# Altium schematic symbol library kmilo17pet-NSC_Switcher.SchLib: 2226 symbols (part 6 of 59)
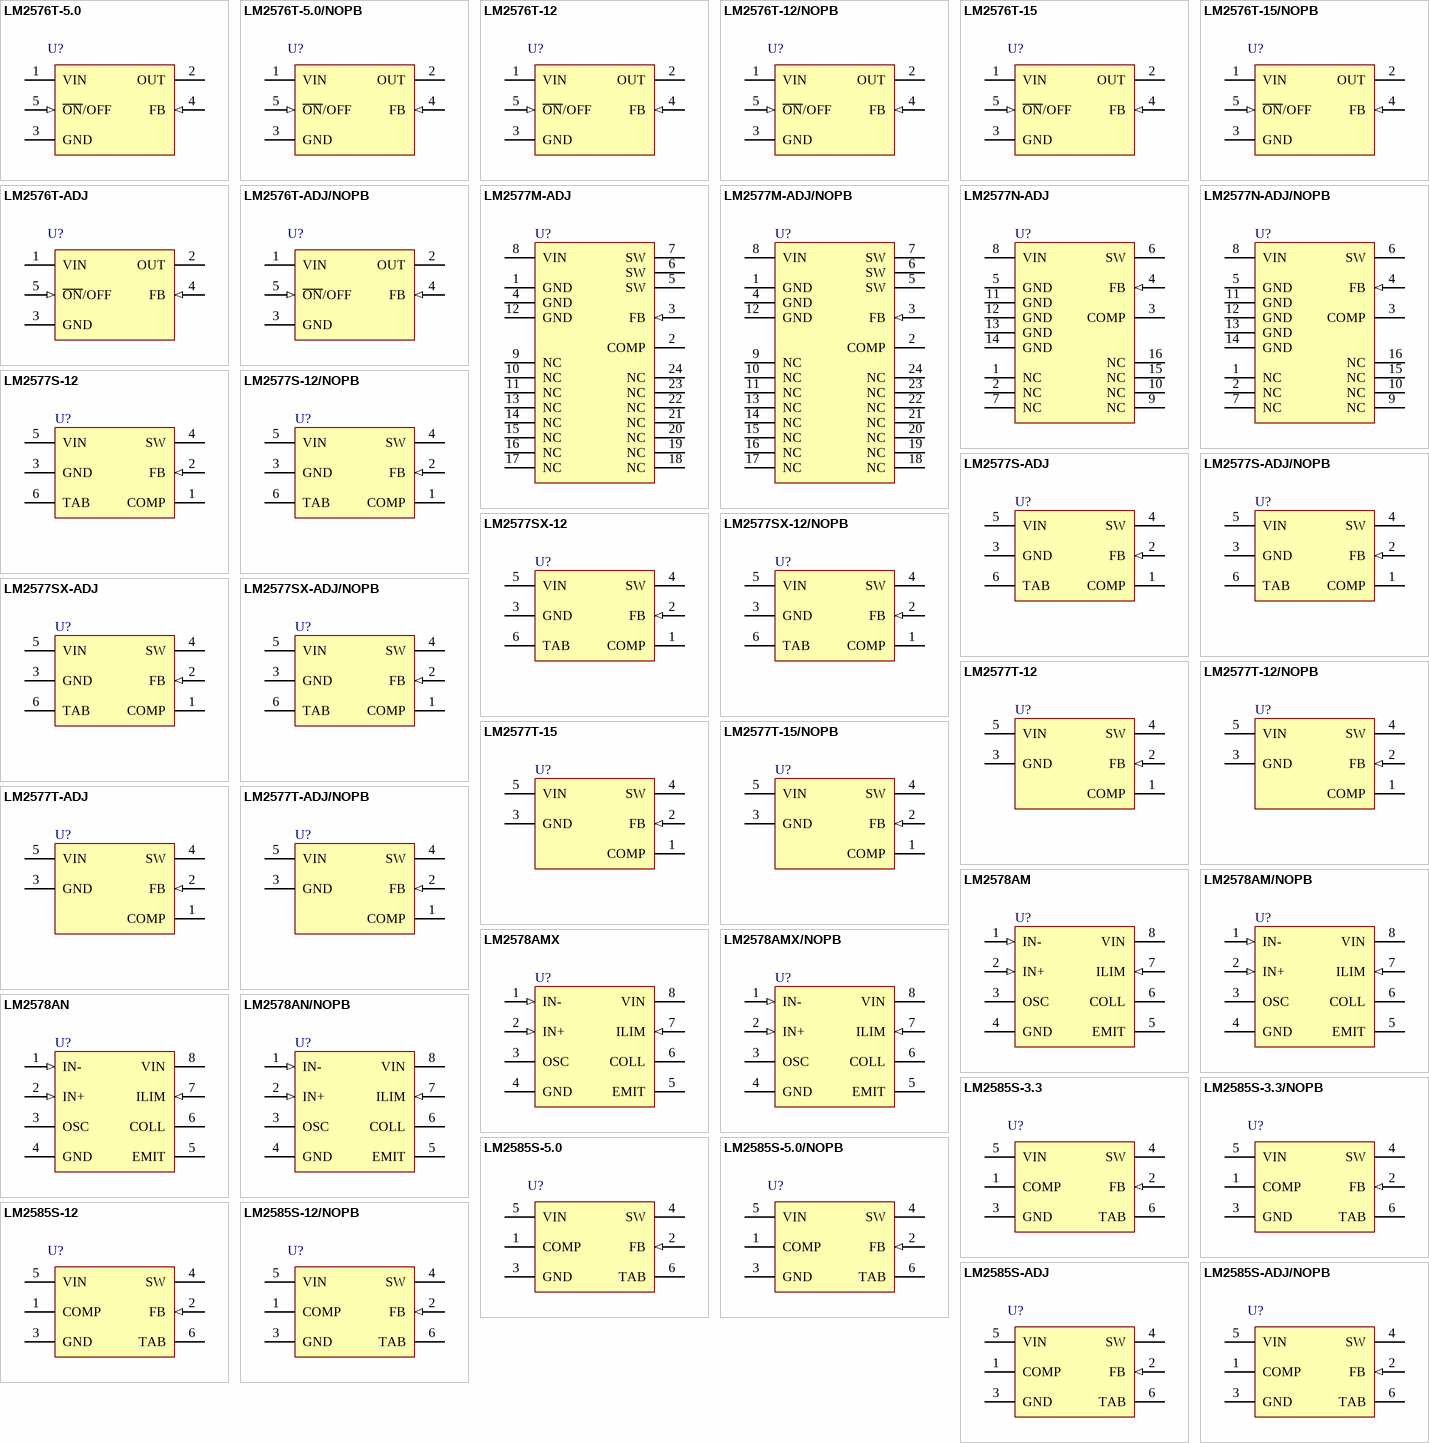
[diagram p74: symbols LM2576T-5.0 to LM2585S-ADJ/NOPB]

## LM2576T-12/NOPB
designator U?
SIMPLE SWITCHER® 3A Step-Down Voltage Regulator, 5-pin TO-220, Pb-Free; PartNumber: LM2576T-12/NOPB; Manufacturer: National Semiconductor; PackageTopMarking: NSUZXYTTE#*LM2576T*-12 P+; PowerWise: N; High-Reliability: Y; DatasheetVersion: Aug-2004; PackageVersion: revJ, Jan-1992; PackageReference: T05A; PackageDescription: TO-220, Molded, 5 Lead, Straight; RoHS: Y; PinCount: 5; CompType: Switcher; Code_JEDEC: TO-220-AB; ComponentLink1Description: Manufacturer URL; ComponentLink1URL: http://www.national.com/; ComponentLink2Description: LM2576 Datasheet; ComponentLink2URL: http://www.national.com/ds/LM/LM2576.pdf; ComponentLink3Description: LM2576 Web Page; ComponentLink3URL: http://www.national.com/pf/LM/LM2576.html; ComponentLink4Description: T05A Package Page; ComponentLink4URL: http://www.national.com/packaging/folders/t05a.html
footprint T05A (TO, Thru-Hole, Vertical, Heatsink Mounted; 5 In-Line Leads; Pitch 1.70 mm)
pins: 1 VIN (power), 2 OUT (power), 3 GND (power), 4 FB (in), 5 ~{ON}/OFF (in)

## LM2576T-15
designator U?
SIMPLE SWITCHER® 3A Step-Down Voltage Regulator, 5-pin TO-220; PartNumber: LM2576T-15; Manufacturer: National Semiconductor; PackageTopMarking: NSUZXYTTE#*LM2576T*-15 P+; PowerWise: N; High-Reliability: Y; DatasheetVersion: Aug-2004; PackageVersion: revJ, Jan-1992; PackageReference: T05A; PackageDescription: TO-220, Molded, 5 Lead, Straight; RoHS: N; PinCount: 5; CompType: Switcher; Code_JEDEC: TO-220-AB; ComponentLink1Description: Manufacturer URL; ComponentLink1URL: http://www.national.com/; ComponentLink2Description: LM2576 Datasheet; ComponentLink2URL: http://www.national.com/ds/LM/LM2576.pdf; ComponentLink3Description: LM2576 Web Page; ComponentLink3URL: http://www.national.com/pf/LM/LM2576.html; ComponentLink4Description: T05A Package Page; ComponentLink4URL: http://www.national.com/packaging/folders/t05a.html
footprint T05A (TO, Thru-Hole, Vertical, Heatsink Mounted; 5 In-Line Leads; Pitch 1.70 mm)
pins: 1 VIN (power), 2 OUT (power), 3 GND (power), 4 FB (in), 5 ~{ON}/OFF (in)

## LM2576T-15/NOPB
designator U?
SIMPLE SWITCHER® 3A Step-Down Voltage Regulator, 5-pin TO-220, Pb-Free; PartNumber: LM2576T-15/NOPB; Manufacturer: National Semiconductor; PackageTopMarking: NSUZXYTTE#*LM2576T*-15 P+; PowerWise: N; High-Reliability: Y; DatasheetVersion: Aug-2004; PackageVersion: revJ, Jan-1992; PackageReference: T05A; PackageDescription: TO-220, Molded, 5 Lead, Straight; RoHS: Y; PinCount: 5; CompType: Switcher; Code_JEDEC: TO-220-AB; ComponentLink1Description: Manufacturer URL; ComponentLink1URL: http://www.national.com/; ComponentLink2Description: LM2576 Datasheet; ComponentLink2URL: http://www.national.com/ds/LM/LM2576.pdf; ComponentLink3Description: LM2576 Web Page; ComponentLink3URL: http://www.national.com/pf/LM/LM2576.html; ComponentLink4Description: T05A Package Page; ComponentLink4URL: http://www.national.com/packaging/folders/t05a.html
footprint T05A (TO, Thru-Hole, Vertical, Heatsink Mounted; 5 In-Line Leads; Pitch 1.70 mm)
pins: 1 VIN (power), 2 OUT (power), 3 GND (power), 4 FB (in), 5 ~{ON}/OFF (in)

## LM2576T-ADJ
designator U?
SIMPLE SWITCHER® 3A Step-Down Voltage Regulator, 5-pin TO-220; PartNumber: LM2576T-ADJ; Manufacturer: National Semiconductor; PackageTopMarking: NSUZXYTTE#*LM2576T*-ADJ P+; PowerWise: N; High-Reliability: Y; DatasheetVersion: Aug-2004; PackageVersion: revJ, Jan-1992; PackageReference: T05A; PackageDescription: TO-220, Molded, 5 Lead, Straight; RoHS: N; PinCount: 5; CompType: Switcher; Code_JEDEC: TO-220-AB; ComponentLink1Description: Manufacturer URL; ComponentLink1URL: http://www.national.com/; ComponentLink2Description: LM2576 Datasheet; ComponentLink2URL: http://www.national.com/ds/LM/LM2576.pdf; ComponentLink3Description: LM2576 Web Page; ComponentLink3URL: http://www.national.com/pf/LM/LM2576.html; ComponentLink4Description: T05A Package Page; ComponentLink4URL: http://www.national.com/packaging/folders/t05a.html
footprint T05A (TO, Thru-Hole, Vertical, Heatsink Mounted; 5 In-Line Leads; Pitch 1.70 mm)
pins: 1 VIN (power), 2 OUT (power), 3 GND (power), 4 FB (in), 5 ~{ON}/OFF (in)

## LM2576T-ADJ/NOPB
designator U?
SIMPLE SWITCHER® 3A Step-Down Voltage Regulator, 5-pin TO-220, Pb-Free; PartNumber: LM2576T-ADJ/NOPB; Manufacturer: National Semiconductor; PackageTopMarking: NSUZXYTTE#*LM2576T*-ADJ P+; PowerWise: N; High-Reliability: Y; DatasheetVersion: Aug-2004; PackageVersion: revJ, Jan-1992; PackageReference: T05A; PackageDescription: TO-220, Molded, 5 Lead, Straight; RoHS: Y; PinCount: 5; CompType: Switcher; Code_JEDEC: TO-220-AB; ComponentLink1Description: Manufacturer URL; ComponentLink1URL: http://www.national.com/; ComponentLink2Description: LM2576 Datasheet; ComponentLink2URL: http://www.national.com/ds/LM/LM2576.pdf; ComponentLink3Description: LM2576 Web Page; ComponentLink3URL: http://www.national.com/pf/LM/LM2576.html; ComponentLink4Description: T05A Package Page; ComponentLink4URL: http://www.national.com/packaging/folders/t05a.html
footprint T05A (TO, Thru-Hole, Vertical, Heatsink Mounted; 5 In-Line Leads; Pitch 1.70 mm)
pins: 1 VIN (power), 2 OUT (power), 3 GND (power), 4 FB (in), 5 ~{ON}/OFF (in)

## LM2577M-ADJ
designator U?
SIMPLE SWITCHER® Step-Up Voltage Regulator, 24-pin Wide SOIC; PartNumber: LM2577M-ADJ; Manufacturer: National Semiconductor; PackageTopMarking: NSUZXYTTE#*LM2577M*-ADJ P+; PowerWise: N; High-Reliability: Y; DatasheetVersion: Apr-2005; PackageVersion: revF, Apr-1990; PackageReference: M24B; PackageDescription: Molded Package, S.O., .300in Wide, 24 Lead; RoHS: N; PinCount: 24; CompType: Switcher; ComponentLink1Description: Manufacturer URL; ComponentLink1URL: http://www.national.com/; ComponentLink2Description: LM2577 Datasheet; ComponentLink2URL: http://www.national.com/ds/LM/LM2577.pdf; ComponentLink3Description: LM2577 Web Page; ComponentLink3URL: http://www.national.com/pf/LM/LM2577.html; ComponentLink4Description: M24B Package Page; ComponentLink4URL: http://www.national.com/packaging/folders/m24b.html
footprint M24B_N (SOIC, 24-Leads, Body 15.4x7.5mm, Pitch 1.27mm, IPC Medium Density)
footprint M24B_L (SOIC, 24-Leads, Body 15.4x7.5mm, Pitch 1.27mm, IPC High Density)
footprint M24B_M (SOIC, 24-Leads, Body 15.4x7.5mm, Pitch 1.27mm, IPC Low Density)
pins: 1 GND (power), 2 COMP, 3 FB (in), 4 GND (power), 5 SW (power), 6 SW (power), 7 SW (power), 8 VIN (power), 9 NC, 10 NC, 11 NC, 12 GND (power), 13 NC, 14 NC, 15 NC, 16 NC, 17 NC, 18 NC, 19 NC, 20 NC, 21 NC, 22 NC, 23 NC, 24 NC

## LM2577M-ADJ/NOPB
designator U?
SIMPLE SWITCHER® Step-Up Voltage Regulator, 24-pin Wide SOIC, Pb-Free; PartNumber: LM2577M-ADJ/NOPB; Manufacturer: National Semiconductor; PackageTopMarking: NSUZXYTTE#*LM2577M*-ADJ P+; PowerWise: N; High-Reliability: Y; DatasheetVersion: Apr-2005; PackageVersion: revF, Apr-1990; PackageReference: M24B; PackageDescription: Molded Package, S.O., .300in Wide, 24 Lead; RoHS: Y; PinCount: 24; CompType: Switcher; ComponentLink1Description: Manufacturer URL; ComponentLink1URL: http://www.national.com/; ComponentLink2Description: LM2577 Datasheet; ComponentLink2URL: http://www.national.com/ds/LM/LM2577.pdf; ComponentLink3Description: LM2577 Web Page; ComponentLink3URL: http://www.national.com/pf/LM/LM2577.html; ComponentLink4Description: M24B Package Page; ComponentLink4URL: http://www.national.com/packaging/folders/m24b.html
footprint M24B_N (SOIC, 24-Leads, Body 15.4x7.5mm, Pitch 1.27mm, IPC Medium Density)
footprint M24B_L (SOIC, 24-Leads, Body 15.4x7.5mm, Pitch 1.27mm, IPC High Density)
footprint M24B_M (SOIC, 24-Leads, Body 15.4x7.5mm, Pitch 1.27mm, IPC Low Density)
pins: 1 GND (power), 2 COMP, 3 FB (in), 4 GND (power), 5 SW (power), 6 SW (power), 7 SW (power), 8 VIN (power), 9 NC, 10 NC, 11 NC, 12 GND (power), 13 NC, 14 NC, 15 NC, 16 NC, 17 NC, 18 NC, 19 NC, 20 NC, 21 NC, 22 NC, 23 NC, 24 NC

## LM2577N-ADJ
designator U?
SIMPLE SWITCHER® Step-Up Voltage Regulator, 16-pin MDIP; PartNumber: LM2577N-ADJ; Manufacturer: National Semiconductor; PackageTopMarking: NSUZXYYTTE#*LM2577N-ADJ*P+; PowerWise: N; High-Reliability: Y; DatasheetVersion: Apr-2005; PackageVersion: revB, Feb-1989; PackageReference: N16G; PackageDescription: Molded Dip (N), 16 Lead, 15 Mil Power Package; RoHS: N; PinCount: 16; CompType: Switcher; ComponentLink1Description: Manufacturer URL; ComponentLink1URL: http://www.national.com/; ComponentLink2Description: LM2577 Datasheet; ComponentLink2URL: http://www.national.com/ds/LM/LM2577.pdf; ComponentLink3Description: LM2577 Web Page; ComponentLink3URL: http://www.national.com/pf/LM/LM2577.html; ComponentLink4Description: N16G Package Page; ComponentLink4URL: http://www.national.com/packaging/folders/n16g.html
footprint N16G (DIP, 16-Leads, Row Spacing 7.62mm, Pitch 2.54mm, Body 21.76x6.35mm)
pins: 1 NC, 2 NC, 3 COMP, 4 FB (in), 5 GND (power), 6 SW (power), 7 NC, 8 VIN (power), 9 NC, 10 NC, 11 GND (power), 12 GND (power), 13 GND (power), 14 GND (power), 15 NC, 16 NC

## LM2577N-ADJ/NOPB
designator U?
SIMPLE SWITCHER® Step-Up Voltage Regulator, 16-pin MDIP, Pb-Free; PartNumber: LM2577N-ADJ/NOPB; Manufacturer: National Semiconductor; PackageTopMarking: NSUZXYYTTE#*LM2577N-ADJ*P+; PowerWise: N; High-Reliability: Y; DatasheetVersion: Apr-2005; PackageVersion: revB, Feb-1989; PackageReference: N16G; PackageDescription: Molded Dip (N), 16 Lead, 15 Mil Power Package; RoHS: Y; PinCount: 16; CompType: Switcher; ComponentLink1Description: Manufacturer URL; ComponentLink1URL: http://www.national.com/; ComponentLink2Description: LM2577 Datasheet; ComponentLink2URL: http://www.national.com/ds/LM/LM2577.pdf; ComponentLink3Description: LM2577 Web Page; ComponentLink3URL: http://www.national.com/pf/LM/LM2577.html; ComponentLink4Description: N16G Package Page; ComponentLink4URL: http://www.national.com/packaging/folders/n16g.html
footprint N16G (DIP, 16-Leads, Row Spacing 7.62mm, Pitch 2.54mm, Body 21.76x6.35mm)
pins: 1 NC, 2 NC, 3 COMP, 4 FB (in), 5 GND (power), 6 SW (power), 7 NC, 8 VIN (power), 9 NC, 10 NC, 11 GND (power), 12 GND (power), 13 GND (power), 14 GND (power), 15 NC, 16 NC

## LM2577S-12
designator U?
SIMPLE SWITCHER® Step-Up Voltage Regulator, 5-pin TO-263; PartNumber: LM2577S-12; Manufacturer: National Semiconductor; PackageTopMarking: NSUZXYTTE#*LM2577S*-12 P+; PowerWise: N; High-Reliability: Y; DatasheetVersion: Apr-2005; PackageVersion: revD, Apr-2005; PackageReference: TS5B; PackageDescription: TO-263, Molded, .400 x .390 x .180in, 5 Lead, .067in Pitch, Surface Mount; RoHS: N; PinCount: 5; CompType: Switcher; Code_JEDEC: MO-169-AB; ComponentLink1Description: Manufacturer URL; ComponentLink1URL: http://www.national.com/; ComponentLink2Description: LM2577 Datasheet; ComponentLink2URL: http://www.national.com/ds/LM/LM2577.pdf; ComponentLink3Description: LM2577 Web Page; ComponentLink3URL: http://www.national.com/pf/LM/LM2577.html; ComponentLink4Description: TS5B Package Page; ComponentLink4URL: http://www.national.com/packaging/folders/ts5b.html
footprint TS5B_N (D2-PAK, 6-Leads, Body 8.6x10.2mm, Pitch 1.7mm, Lead Span 14.1mm, IPC Medium Density)
footprint TS5B_L (D2-PAK, 6-Leads, Body 8.6x10.2mm, Pitch 1.7mm, Lead Span 14.1mm, IPC High Density)
footprint TS5B_M (D2-PAK, 6-Leads, Body 8.6x10.2mm, Pitch 1.7mm, Lead Span 14.1mm, IPC Low Density)
pins: 1 COMP, 2 FB (in), 3 GND (power), 4 SW (power), 5 VIN (power), 6 TAB (power)

## LM2577S-12/NOPB
designator U?
SIMPLE SWITCHER® Step-Up Voltage Regulator, 5-pin TO-263, Pb-Free; PartNumber: LM2577S-12/NOPB; Manufacturer: National Semiconductor; PackageTopMarking: NSUZXYTTE#*LM2577S*-12 P+; PowerWise: N; High-Reliability: Y; DatasheetVersion: Apr-2005; PackageVersion: revD, Apr-2005; PackageReference: TS5B; PackageDescription: TO-263, Molded, .400 x .390 x .180in, 5 Lead, .067in Pitch, Surface Mount; RoHS: Y; PinCount: 5; CompType: Switcher; Code_JEDEC: MO-169-AB; ComponentLink1Description: Manufacturer URL; ComponentLink1URL: http://www.national.com/; ComponentLink2Description: LM2577 Datasheet; ComponentLink2URL: http://www.national.com/ds/LM/LM2577.pdf; ComponentLink3Description: LM2577 Web Page; ComponentLink3URL: http://www.national.com/pf/LM/LM2577.html; ComponentLink4Description: TS5B Package Page; ComponentLink4URL: http://www.national.com/packaging/folders/ts5b.html
footprint TS5B_N (D2-PAK, 6-Leads, Body 8.6x10.2mm, Pitch 1.7mm, Lead Span 14.1mm, IPC Medium Density)
footprint TS5B_L (D2-PAK, 6-Leads, Body 8.6x10.2mm, Pitch 1.7mm, Lead Span 14.1mm, IPC High Density)
footprint TS5B_M (D2-PAK, 6-Leads, Body 8.6x10.2mm, Pitch 1.7mm, Lead Span 14.1mm, IPC Low Density)
pins: 1 COMP, 2 FB (in), 3 GND (power), 4 SW (power), 5 VIN (power), 6 TAB (power)

## LM2577S-ADJ
designator U?
SIMPLE SWITCHER® Step-Up Voltage Regulator, 5-pin TO-263; PartNumber: LM2577S-ADJ; Manufacturer: National Semiconductor; PackageTopMarking: NSUZXYTTE#*LM2577S*-ADJ P+; PowerWise: N; High-Reliability: Y; DatasheetVersion: Apr-2005; PackageVersion: revD, Apr-2005; PackageReference: TS5B; PackageDescription: TO-263, Molded, .400 x .390 x .180in, 5 Lead, .067in Pitch, Surface Mount; RoHS: N; PinCount: 5; CompType: Switcher; Code_JEDEC: MO-169-AB; ComponentLink1Description: Manufacturer URL; ComponentLink1URL: http://www.national.com/; ComponentLink2Description: LM2577 Datasheet; ComponentLink2URL: http://www.national.com/ds/LM/LM2577.pdf; ComponentLink3Description: LM2577 Web Page; ComponentLink3URL: http://www.national.com/pf/LM/LM2577.html; ComponentLink4Description: TS5B Package Page; ComponentLink4URL: http://www.national.com/packaging/folders/ts5b.html
footprint TS5B_N (D2-PAK, 6-Leads, Body 8.6x10.2mm, Pitch 1.7mm, Lead Span 14.1mm, IPC Medium Density)
footprint TS5B_L (D2-PAK, 6-Leads, Body 8.6x10.2mm, Pitch 1.7mm, Lead Span 14.1mm, IPC High Density)
footprint TS5B_M (D2-PAK, 6-Leads, Body 8.6x10.2mm, Pitch 1.7mm, Lead Span 14.1mm, IPC Low Density)
pins: 1 COMP, 2 FB (in), 3 GND (power), 4 SW (power), 5 VIN (power), 6 TAB (power)

## LM2577S-ADJ/NOPB
designator U?
SIMPLE SWITCHER® Step-Up Voltage Regulator, 5-pin TO-263, Pb-Free; PartNumber: LM2577S-ADJ/NOPB; Manufacturer: National Semiconductor; PackageTopMarking: NSUZXYTTE#*LM2577S*-ADJ P+; PowerWise: N; High-Reliability: Y; DatasheetVersion: Apr-2005; PackageVersion: revD, Apr-2005; PackageReference: TS5B; PackageDescription: TO-263, Molded, .400 x .390 x .180in, 5 Lead, .067in Pitch, Surface Mount; RoHS: Y; PinCount: 5; CompType: Switcher; Code_JEDEC: MO-169-AB; ComponentLink1Description: Manufacturer URL; ComponentLink1URL: http://www.national.com/; ComponentLink2Description: LM2577 Datasheet; ComponentLink2URL: http://www.national.com/ds/LM/LM2577.pdf; ComponentLink3Description: LM2577 Web Page; ComponentLink3URL: http://www.national.com/pf/LM/LM2577.html; ComponentLink4Description: TS5B Package Page; ComponentLink4URL: http://www.national.com/packaging/folders/ts5b.html
footprint TS5B_N (D2-PAK, 6-Leads, Body 8.6x10.2mm, Pitch 1.7mm, Lead Span 14.1mm, IPC Medium Density)
footprint TS5B_L (D2-PAK, 6-Leads, Body 8.6x10.2mm, Pitch 1.7mm, Lead Span 14.1mm, IPC High Density)
footprint TS5B_M (D2-PAK, 6-Leads, Body 8.6x10.2mm, Pitch 1.7mm, Lead Span 14.1mm, IPC Low Density)
pins: 1 COMP, 2 FB (in), 3 GND (power), 4 SW (power), 5 VIN (power), 6 TAB (power)

## LM2577SX-12
designator U?
SIMPLE SWITCHER® Step-Up Voltage Regulator, 5-pin TO-263; PartNumber: LM2577SX-12; Manufacturer: National Semiconductor; PackageTopMarking: NSUZXYTTE#*LM2577S*-12 P+; PowerWise: N; High-Reliability: Y; DatasheetVersion: Apr-2005; PackageVersion: revD, Apr-2005; PackageReference: TS5B; PackageDescription: TO-263, Molded, .400 x .390 x .180in, 5 Lead, .067in Pitch, Surface Mount; RoHS: N; PinCount: 5; CompType: Switcher; Code_JEDEC: MO-169-AB; ComponentLink1Description: Manufacturer URL; ComponentLink1URL: http://www.national.com/; ComponentLink2Description: LM2577 Datasheet; ComponentLink2URL: http://www.national.com/ds/LM/LM2577.pdf; ComponentLink3Description: LM2577 Web Page; ComponentLink3URL: http://www.national.com/pf/LM/LM2577.html; ComponentLink4Description: TS5B Package Page; ComponentLink4URL: http://www.national.com/packaging/folders/ts5b.html
footprint TS5B_N (D2-PAK, 6-Leads, Body 8.6x10.2mm, Pitch 1.7mm, Lead Span 14.1mm, IPC Medium Density)
footprint TS5B_L (D2-PAK, 6-Leads, Body 8.6x10.2mm, Pitch 1.7mm, Lead Span 14.1mm, IPC High Density)
footprint TS5B_M (D2-PAK, 6-Leads, Body 8.6x10.2mm, Pitch 1.7mm, Lead Span 14.1mm, IPC Low Density)
pins: 1 COMP, 2 FB (in), 3 GND (power), 4 SW (power), 5 VIN (power), 6 TAB (power)

## LM2577SX-12/NOPB
designator U?
SIMPLE SWITCHER® Step-Up Voltage Regulator, 5-pin TO-263, Pb-Free; PartNumber: LM2577SX-12/NOPB; Manufacturer: National Semiconductor; PackageTopMarking: NSUZXYTTE#*LM2577S*-12 P+; PowerWise: N; High-Reliability: Y; DatasheetVersion: Apr-2005; PackageVersion: revD, Apr-2005; PackageReference: TS5B; PackageDescription: TO-263, Molded, .400 x .390 x .180in, 5 Lead, .067in Pitch, Surface Mount; RoHS: Y; PinCount: 5; CompType: Switcher; Code_JEDEC: MO-169-AB; ComponentLink1Description: Manufacturer URL; ComponentLink1URL: http://www.national.com/; ComponentLink2Description: LM2577 Datasheet; ComponentLink2URL: http://www.national.com/ds/LM/LM2577.pdf; ComponentLink3Description: LM2577 Web Page; ComponentLink3URL: http://www.national.com/pf/LM/LM2577.html; ComponentLink4Description: TS5B Package Page; ComponentLink4URL: http://www.national.com/packaging/folders/ts5b.html
footprint TS5B_N (D2-PAK, 6-Leads, Body 8.6x10.2mm, Pitch 1.7mm, Lead Span 14.1mm, IPC Medium Density)
footprint TS5B_L (D2-PAK, 6-Leads, Body 8.6x10.2mm, Pitch 1.7mm, Lead Span 14.1mm, IPC High Density)
footprint TS5B_M (D2-PAK, 6-Leads, Body 8.6x10.2mm, Pitch 1.7mm, Lead Span 14.1mm, IPC Low Density)
pins: 1 COMP, 2 FB (in), 3 GND (power), 4 SW (power), 5 VIN (power), 6 TAB (power)

## LM2577SX-ADJ
designator U?
SIMPLE SWITCHER® Step-Up Voltage Regulator, 5-pin TO-263; PartNumber: LM2577SX-ADJ; Manufacturer: National Semiconductor; PackageTopMarking: NSUZXYTTE#*LM2577S*-ADJ P+; PowerWise: N; High-Reliability: Y; DatasheetVersion: Apr-2005; PackageVersion: revD, Apr-2005; PackageReference: TS5B; PackageDescription: TO-263, Molded, .400 x .390 x .180in, 5 Lead, .067in Pitch, Surface Mount; RoHS: N; PinCount: 5; CompType: Switcher; Code_JEDEC: MO-169-AB; ComponentLink1Description: Manufacturer URL; ComponentLink1URL: http://www.national.com/; ComponentLink2Description: LM2577 Datasheet; ComponentLink2URL: http://www.national.com/ds/LM/LM2577.pdf; ComponentLink3Description: LM2577 Web Page; ComponentLink3URL: http://www.national.com/pf/LM/LM2577.html; ComponentLink4Description: TS5B Package Page; ComponentLink4URL: http://www.national.com/packaging/folders/ts5b.html
footprint TS5B_N (D2-PAK, 6-Leads, Body 8.6x10.2mm, Pitch 1.7mm, Lead Span 14.1mm, IPC Medium Density)
footprint TS5B_L (D2-PAK, 6-Leads, Body 8.6x10.2mm, Pitch 1.7mm, Lead Span 14.1mm, IPC High Density)
footprint TS5B_M (D2-PAK, 6-Leads, Body 8.6x10.2mm, Pitch 1.7mm, Lead Span 14.1mm, IPC Low Density)
pins: 1 COMP, 2 FB (in), 3 GND (power), 4 SW (power), 5 VIN (power), 6 TAB (power)

## LM2577SX-ADJ/NOPB
designator U?
SIMPLE SWITCHER® Step-Up Voltage Regulator, 5-pin TO-263, Pb-Free; PartNumber: LM2577SX-ADJ/NOPB; Manufacturer: National Semiconductor; PackageTopMarking: NSUZXYTTE#*LM2577S*-ADJ P+; PowerWise: N; High-Reliability: Y; DatasheetVersion: Apr-2005; PackageVersion: revD, Apr-2005; PackageReference: TS5B; PackageDescription: TO-263, Molded, .400 x .390 x .180in, 5 Lead, .067in Pitch, Surface Mount; RoHS: Y; PinCount: 5; CompType: Switcher; Code_JEDEC: MO-169-AB; ComponentLink1Description: Manufacturer URL; ComponentLink1URL: http://www.national.com/; ComponentLink2Description: LM2577 Datasheet; ComponentLink2URL: http://www.national.com/ds/LM/LM2577.pdf; ComponentLink3Description: LM2577 Web Page; ComponentLink3URL: http://www.national.com/pf/LM/LM2577.html; ComponentLink4Description: TS5B Package Page; ComponentLink4URL: http://www.national.com/packaging/folders/ts5b.html
footprint TS5B_N (D2-PAK, 6-Leads, Body 8.6x10.2mm, Pitch 1.7mm, Lead Span 14.1mm, IPC Medium Density)
footprint TS5B_L (D2-PAK, 6-Leads, Body 8.6x10.2mm, Pitch 1.7mm, Lead Span 14.1mm, IPC High Density)
footprint TS5B_M (D2-PAK, 6-Leads, Body 8.6x10.2mm, Pitch 1.7mm, Lead Span 14.1mm, IPC Low Density)
pins: 1 COMP, 2 FB (in), 3 GND (power), 4 SW (power), 5 VIN (power), 6 TAB (power)

## LM2577T-12
designator U?
SIMPLE SWITCHER® Step-Up Voltage Regulator, 5-pin TO-220; PartNumber: LM2577T-12; Manufacturer: National Semiconductor; PackageTopMarking: NSUZXYTTE#*LM2577T-12*P+; PowerWise: N; High-Reliability: Y; DatasheetVersion: Apr-2005; PackageVersion: revJ, Jan-1992; PackageReference: T05A; PackageDescription: TO-220, Molded, 5 Lead, Straight; RoHS: N; PinCount: 5; CompType: Switcher; Code_JEDEC: TO-220-AB; ComponentLink1Description: Manufacturer URL; ComponentLink1URL: http://www.national.com/; ComponentLink2Description: LM2577 Datasheet; ComponentLink2URL: http://www.national.com/ds/LM/LM2577.pdf; ComponentLink3Description: LM2577 Web Page; ComponentLink3URL: http://www.national.com/pf/LM/LM2577.html; ComponentLink4Description: T05A Package Page; ComponentLink4URL: http://www.national.com/packaging/folders/t05a.html
footprint T05A (TO, Thru-Hole, Vertical, Heatsink Mounted; 5 In-Line Leads; Pitch 1.70 mm)
pins: 1 COMP, 2 FB (in), 3 GND (power), 4 SW (power), 5 VIN (power)

## LM2577T-12/NOPB
designator U?
SIMPLE SWITCHER® Step-Up Voltage Regulator, 5-pin TO-220, Pb-Free; PartNumber: LM2577T-12/NOPB; Manufacturer: National Semiconductor; PackageTopMarking: NSUZXYTTE#*LM2577T-12*P+; PowerWise: N; High-Reliability: Y; DatasheetVersion: Apr-2005; PackageVersion: revJ, Jan-1992; PackageReference: T05A; PackageDescription: TO-220, Molded, 5 Lead, Straight; RoHS: Y; PinCount: 5; CompType: Switcher; Code_JEDEC: TO-220-AB; ComponentLink1Description: Manufacturer URL; ComponentLink1URL: http://www.national.com/; ComponentLink2Description: LM2577 Datasheet; ComponentLink2URL: http://www.national.com/ds/LM/LM2577.pdf; ComponentLink3Description: LM2577 Web Page; ComponentLink3URL: http://www.national.com/pf/LM/LM2577.html; ComponentLink4Description: T05A Package Page; ComponentLink4URL: http://www.national.com/packaging/folders/t05a.html
footprint T05A (TO, Thru-Hole, Vertical, Heatsink Mounted; 5 In-Line Leads; Pitch 1.70 mm)
pins: 1 COMP, 2 FB (in), 3 GND (power), 4 SW (power), 5 VIN (power)

## LM2577T-15
designator U?
SIMPLE SWITCHER® Step-Up Voltage Regulator, 5-pin TO-220; PartNumber: LM2577T-15; Manufacturer: National Semiconductor; PackageTopMarking: NSUZXYTTE#*LM2577T-15*P+; PowerWise: N; High-Reliability: Y; DatasheetVersion: Apr-2005; PackageVersion: revJ, Jan-1992; PackageReference: T05A; PackageDescription: TO-220, Molded, 5 Lead, Straight; RoHS: N; PinCount: 5; CompType: Switcher; Code_JEDEC: TO-220-AB; ComponentLink1Description: Manufacturer URL; ComponentLink1URL: http://www.national.com/; ComponentLink2Description: LM2577 Datasheet; ComponentLink2URL: http://www.national.com/ds/LM/LM2577.pdf; ComponentLink3Description: LM2577 Web Page; ComponentLink3URL: http://www.national.com/pf/LM/LM2577.html; ComponentLink4Description: T05A Package Page; ComponentLink4URL: http://www.national.com/packaging/folders/t05a.html
footprint T05A (TO, Thru-Hole, Vertical, Heatsink Mounted; 5 In-Line Leads; Pitch 1.70 mm)
pins: 1 COMP, 2 FB (in), 3 GND (power), 4 SW (power), 5 VIN (power)

## LM2577T-15/NOPB
designator U?
SIMPLE SWITCHER® Step-Up Voltage Regulator, 5-pin TO-220, Pb-Free; PartNumber: LM2577T-15/NOPB; Manufacturer: National Semiconductor; PackageTopMarking: NSUZXYTTE#*LM2577T-15*P+; PowerWise: N; High-Reliability: Y; DatasheetVersion: Apr-2005; PackageVersion: revJ, Jan-1992; PackageReference: T05A; PackageDescription: TO-220, Molded, 5 Lead, Straight; RoHS: Y; PinCount: 5; CompType: Switcher; Code_JEDEC: TO-220-AB; ComponentLink1Description: Manufacturer URL; ComponentLink1URL: http://www.national.com/; ComponentLink2Description: LM2577 Datasheet; ComponentLink2URL: http://www.national.com/ds/LM/LM2577.pdf; ComponentLink3Description: LM2577 Web Page; ComponentLink3URL: http://www.national.com/pf/LM/LM2577.html; ComponentLink4Description: T05A Package Page; ComponentLink4URL: http://www.national.com/packaging/folders/t05a.html
footprint T05A (TO, Thru-Hole, Vertical, Heatsink Mounted; 5 In-Line Leads; Pitch 1.70 mm)
pins: 1 COMP, 2 FB (in), 3 GND (power), 4 SW (power), 5 VIN (power)

## LM2577T-ADJ
designator U?
SIMPLE SWITCHER® Step-Up Voltage Regulator, 5-pin TO-220; PartNumber: LM2577T-ADJ; Manufacturer: National Semiconductor; PackageTopMarking: NSUZXYTTE#*LM2577T*-ADJ*P+; PowerWise: N; High-Reliability: Y; DatasheetVersion: Apr-2005; PackageVersion: revJ, Jan-1992; PackageReference: T05A; PackageDescription: TO-220, Molded, 5 Lead, Straight; RoHS: N; PinCount: 5; CompType: Switcher; Code_JEDEC: TO-220-AB; ComponentLink1Description: Manufacturer URL; ComponentLink1URL: http://www.national.com/; ComponentLink2Description: LM2577 Datasheet; ComponentLink2URL: http://www.national.com/ds/LM/LM2577.pdf; ComponentLink3Description: LM2577 Web Page; ComponentLink3URL: http://www.national.com/pf/LM/LM2577.html; ComponentLink4Description: T05A Package Page; ComponentLink4URL: http://www.national.com/packaging/folders/t05a.html
footprint T05A (TO, Thru-Hole, Vertical, Heatsink Mounted; 5 In-Line Leads; Pitch 1.70 mm)
pins: 1 COMP, 2 FB (in), 3 GND (power), 4 SW (power), 5 VIN (power)

## LM2577T-ADJ/NOPB
designator U?
SIMPLE SWITCHER® Step-Up Voltage Regulator, 5-pin TO-220, Pb-Free; PartNumber: LM2577T-ADJ/NOPB; Manufacturer: National Semiconductor; PackageTopMarking: NSUZXYTTE#*LM2577T*-ADJ*P+; PowerWise: N; High-Reliability: Y; DatasheetVersion: Apr-2005; PackageVersion: revJ, Jan-1992; PackageReference: T05A; PackageDescription: TO-220, Molded, 5 Lead, Straight; RoHS: Y; PinCount: 5; CompType: Switcher; Code_JEDEC: TO-220-AB; ComponentLink1Description: Manufacturer URL; ComponentLink1URL: http://www.national.com/; ComponentLink2Description: LM2577 Datasheet; ComponentLink2URL: http://www.national.com/ds/LM/LM2577.pdf; ComponentLink3Description: LM2577 Web Page; ComponentLink3URL: http://www.national.com/pf/LM/LM2577.html; ComponentLink4Description: T05A Package Page; ComponentLink4URL: http://www.national.com/packaging/folders/t05a.html
footprint T05A (TO, Thru-Hole, Vertical, Heatsink Mounted; 5 In-Line Leads; Pitch 1.70 mm)
pins: 1 COMP, 2 FB (in), 3 GND (power), 4 SW (power), 5 VIN (power)

## LM2578AM
designator U?
Switching Regulator, 8-pin Narrow SOIC; PartNumber: LM2578AM; Manufacturer: National Semiconductor; PackageTopMarking: NSZXTT*2578*AM; PowerWise: N; CompType: Switcher; High-Reliability: Y; DatasheetVersion: Feb-2005; PackageVersion: revM, May-2009; PackageReference: M08A; PackageDescription: SOIC Narrow, 4.9 x 3.9 x 1.45mm, 8 Lead, 1.27mm Pitch; RoHS: N; PinCount: 8; Code_JEDEC: MS-012-AA; Code_IPC: SOIC127P600-8; ComponentLink1Description: Manufacturer URL; ComponentLink1URL: http://www.national.com/; ComponentLink2Description: LM2578A Datasheet; ComponentLink2URL: http://www.national.com/ds/LM/LM2578A.pdf; ComponentLink3Description: LM2578A Web Page; ComponentLink3URL: http://www.national.com/pf/LM/LM2578A.html; ComponentLink4Description: M08A Package Page; ComponentLink4URL: http://www.national.com/packaging/folders/m08a.html
footprint M08A_N (SOIC, 8-Leads, Body 4.9x3.9mm, Pitch 1.27mm, IPC Medium Density)
footprint M08A_L (SOIC, 8-Leads, Body 4.9x3.9mm, Pitch 1.27mm, IPC High Density)
footprint M08A_M (SOIC, 8-Leads, Body 4.9x3.9mm, Pitch 1.27mm, IPC Low Density)
pins: 1 IN- (in), 2 IN+ (in), 3 OSC, 4 GND (power), 5 EMIT (oe), 6 COLL (oc), 7 ILIM (in), 8 VIN (power)

## LM2578AM/NOPB
designator U?
Switching Regulator, 8-pin Narrow SOIC, Pb-Free; PartNumber: LM2578AM/NOPB; Manufacturer: National Semiconductor; PackageTopMarking: NSZXTT*2578*AM; PowerWise: N; CompType: Switcher; High-Reliability: Y; DatasheetVersion: Feb-2005; PackageVersion: revM, May-2009; PackageReference: M08A; PackageDescription: SOIC Narrow, 4.9 x 3.9 x 1.45mm, 8 Lead, 1.27mm Pitch; RoHS: Y; PinCount: 8; Code_JEDEC: MS-012-AA; Code_IPC: SOIC127P600-8; ComponentLink1Description: Manufacturer URL; ComponentLink1URL: http://www.national.com/; ComponentLink2Description: LM2578A Datasheet; ComponentLink2URL: http://www.national.com/ds/LM/LM2578A.pdf; ComponentLink3Description: LM2578A Web Page; ComponentLink3URL: http://www.national.com/pf/LM/LM2578A.html; ComponentLink4Description: M08A Package Page; ComponentLink4URL: http://www.national.com/packaging/folders/m08a.html
footprint M08A_N (SOIC, 8-Leads, Body 4.9x3.9mm, Pitch 1.27mm, IPC Medium Density)
footprint M08A_L (SOIC, 8-Leads, Body 4.9x3.9mm, Pitch 1.27mm, IPC High Density)
footprint M08A_M (SOIC, 8-Leads, Body 4.9x3.9mm, Pitch 1.27mm, IPC Low Density)
pins: 1 IN- (in), 2 IN+ (in), 3 OSC, 4 GND (power), 5 EMIT (oe), 6 COLL (oc), 7 ILIM (in), 8 VIN (power)

## LM2578AMX
designator U?
Switching Regulator, 8-pin Narrow SOIC; PartNumber: LM2578AMX; Manufacturer: National Semiconductor; PackageTopMarking: NSZXTT*2578*AM; PowerWise: N; CompType: Switcher; High-Reliability: Y; DatasheetVersion: Feb-2005; PackageVersion: revM, May-2009; PackageReference: M08A; PackageDescription: SOIC Narrow, 4.9 x 3.9 x 1.45mm, 8 Lead, 1.27mm Pitch; RoHS: N; PinCount: 8; Code_JEDEC: MS-012-AA; Code_IPC: SOIC127P600-8; ComponentLink1Description: Manufacturer URL; ComponentLink1URL: http://www.national.com/; ComponentLink2Description: LM2578A Datasheet; ComponentLink2URL: http://www.national.com/ds/LM/LM2578A.pdf; ComponentLink3Description: LM2578A Web Page; ComponentLink3URL: http://www.national.com/pf/LM/LM2578A.html; ComponentLink4Description: M08A Package Page; ComponentLink4URL: http://www.national.com/packaging/folders/m08a.html
footprint M08A_N (SOIC, 8-Leads, Body 4.9x3.9mm, Pitch 1.27mm, IPC Medium Density)
footprint M08A_L (SOIC, 8-Leads, Body 4.9x3.9mm, Pitch 1.27mm, IPC High Density)
footprint M08A_M (SOIC, 8-Leads, Body 4.9x3.9mm, Pitch 1.27mm, IPC Low Density)
pins: 1 IN- (in), 2 IN+ (in), 3 OSC, 4 GND (power), 5 EMIT (oe), 6 COLL (oc), 7 ILIM (in), 8 VIN (power)

## LM2578AMX/NOPB
designator U?
Switching Regulator, 8-pin Narrow SOIC, Pb-Free; PartNumber: LM2578AMX/NOPB; Manufacturer: National Semiconductor; PackageTopMarking: NSZXTT*2578*AM; PowerWise: N; CompType: Switcher; High-Reliability: Y; DatasheetVersion: Feb-2005; PackageVersion: revM, May-2009; PackageReference: M08A; PackageDescription: SOIC Narrow, 4.9 x 3.9 x 1.45mm, 8 Lead, 1.27mm Pitch; RoHS: Y; PinCount: 8; Code_JEDEC: MS-012-AA; Code_IPC: SOIC127P600-8; ComponentLink1Description: Manufacturer URL; ComponentLink1URL: http://www.national.com/; ComponentLink2Description: LM2578A Datasheet; ComponentLink2URL: http://www.national.com/ds/LM/LM2578A.pdf; ComponentLink3Description: LM2578A Web Page; ComponentLink3URL: http://www.national.com/pf/LM/LM2578A.html; ComponentLink4Description: M08A Package Page; ComponentLink4URL: http://www.national.com/packaging/folders/m08a.html
footprint M08A_N (SOIC, 8-Leads, Body 4.9x3.9mm, Pitch 1.27mm, IPC Medium Density)
footprint M08A_L (SOIC, 8-Leads, Body 4.9x3.9mm, Pitch 1.27mm, IPC High Density)
footprint M08A_M (SOIC, 8-Leads, Body 4.9x3.9mm, Pitch 1.27mm, IPC Low Density)
pins: 1 IN- (in), 2 IN+ (in), 3 OSC, 4 GND (power), 5 EMIT (oe), 6 COLL (oc), 7 ILIM (in), 8 VIN (power)

## LM2578AN
designator U?
Switching Regulator, 8-pin MDIP; PartNumber: LM2578AN; Manufacturer: National Semiconductor; PackageTopMarking: NSUZXYTTE#*LM2578AN; PowerWise: N; CompType: Switcher; High-Reliability: Y; DatasheetVersion: Feb-2005; PackageVersion: revG, May-2006; PackageReference: N08E; PackageDescription: MDIP, .365 x .250 x .130in, 8 Lead, .100in Pitch; RoHS: N; PinCount: 8; Code_JEDEC: MS-001-BA; ComponentLink1Description: Manufacturer URL; ComponentLink1URL: http://www.national.com/; ComponentLink2Description: LM2578A Datasheet; ComponentLink2URL: http://www.national.com/ds/LM/LM2578A.pdf; ComponentLink3Description: LM2578A Web Page; ComponentLink3URL: http://www.national.com/pf/LM/LM2578A.html; ComponentLink4Description: N08E Package Page; ComponentLink4URL: http://www.national.com/packaging/folders/n08e.html
footprint N08E (DIP, 8-Leads, Row Spacing 7.62mm, Pitch 2.54mm, Body 9.91x6.35mm)
pins: 1 IN- (in), 2 IN+ (in), 3 OSC, 4 GND (power), 5 EMIT (oe), 6 COLL (oc), 7 ILIM (in), 8 VIN (power)

## LM2578AN/NOPB
designator U?
Switching Regulator, 8-pin MDIP, Pb-Free; PartNumber: LM2578AN/NOPB; Manufacturer: National Semiconductor; PackageTopMarking: NSUZXYTTE#*LM2578AN; PowerWise: N; CompType: Switcher; High-Reliability: Y; DatasheetVersion: Feb-2005; PackageVersion: revG, May-2006; PackageReference: N08E; PackageDescription: MDIP, .365 x .250 x .130in, 8 Lead, .100in Pitch; RoHS: Y; PinCount: 8; Code_JEDEC: MS-001-BA; ComponentLink1Description: Manufacturer URL; ComponentLink1URL: http://www.national.com/; ComponentLink2Description: LM2578A Datasheet; ComponentLink2URL: http://www.national.com/ds/LM/LM2578A.pdf; ComponentLink3Description: LM2578A Web Page; ComponentLink3URL: http://www.national.com/pf/LM/LM2578A.html; ComponentLink4Description: N08E Package Page; ComponentLink4URL: http://www.national.com/packaging/folders/n08e.html
footprint N08E (DIP, 8-Leads, Row Spacing 7.62mm, Pitch 2.54mm, Body 9.91x6.35mm)
pins: 1 IN- (in), 2 IN+ (in), 3 OSC, 4 GND (power), 5 EMIT (oe), 6 COLL (oc), 7 ILIM (in), 8 VIN (power)

## LM2585S-3.3
designator U?
SIMPLE SWITCHER® 3-Amp Flyback Regulator, 5-pin TO-263; PartNumber: LM2585S-3.3; Manufacturer: National Semiconductor; PackageTopMarking: NSUZXYTTE#*LM2585S*-3.3 P+; PowerWise: N; High-Reliability: Y; DatasheetVersion: Feb-2010; PackageVersion: revD, Apr-2005; PackageReference: TS5B; PackageDescription: TO-263, Molded, .400 x .390 x .180in, 5 Lead, .067in Pitch, Surface Mount; RoHS: N; PinCount: 5; CompType: Switcher; Code_JEDEC: MO-169-AB; ComponentLink1Description: Manufacturer URL; ComponentLink1URL: http://www.national.com/; ComponentLink2Description: LM2585 Datasheet; ComponentLink2URL: http://www.national.com/ds/LM/LM2585.pdf; ComponentLink3Description: LM2585 Web Page; ComponentLink3URL: http://www.national.com/pf/LM/LM2585.html; ComponentLink4Description: TS5B Package Page; ComponentLink4URL: http://www.national.com/packaging/folders/ts5b.html
footprint TS5B_N (D2-PAK, 6-Leads, Body 8.6x10.2mm, Pitch 1.7mm, Lead Span 14.1mm, IPC Medium Density)
footprint TS5B_L (D2-PAK, 6-Leads, Body 8.6x10.2mm, Pitch 1.7mm, Lead Span 14.1mm, IPC High Density)
footprint TS5B_M (D2-PAK, 6-Leads, Body 8.6x10.2mm, Pitch 1.7mm, Lead Span 14.1mm, IPC Low Density)
pins: 1 COMP, 2 FB (in), 3 GND (power), 4 SW (power), 5 VIN (power), 6 TAB

## LM2585S-3.3/NOPB
designator U?
SIMPLE SWITCHER® 3-Amp Flyback Regulator, 5-pin TO-263, Pb-Free; PartNumber: LM2585S-3.3/NOPB; Manufacturer: National Semiconductor; PackageTopMarking: NSUZXYTTE#*LM2585S*-3.3 P+; PowerWise: N; High-Reliability: Y; DatasheetVersion: Feb-2010; PackageVersion: revD, Apr-2005; PackageReference: TS5B; PackageDescription: TO-263, Molded, .400 x .390 x .180in, 5 Lead, .067in Pitch, Surface Mount; RoHS: Y; PinCount: 5; CompType: Switcher; Code_JEDEC: MO-169-AB; ComponentLink1Description: Manufacturer URL; ComponentLink1URL: http://www.national.com/; ComponentLink2Description: LM2585 Datasheet; ComponentLink2URL: http://www.national.com/ds/LM/LM2585.pdf; ComponentLink3Description: LM2585 Web Page; ComponentLink3URL: http://www.national.com/pf/LM/LM2585.html; ComponentLink4Description: TS5B Package Page; ComponentLink4URL: http://www.national.com/packaging/folders/ts5b.html
footprint TS5B_N (D2-PAK, 6-Leads, Body 8.6x10.2mm, Pitch 1.7mm, Lead Span 14.1mm, IPC Medium Density)
footprint TS5B_L (D2-PAK, 6-Leads, Body 8.6x10.2mm, Pitch 1.7mm, Lead Span 14.1mm, IPC High Density)
footprint TS5B_M (D2-PAK, 6-Leads, Body 8.6x10.2mm, Pitch 1.7mm, Lead Span 14.1mm, IPC Low Density)
pins: 1 COMP, 2 FB (in), 3 GND (power), 4 SW (power), 5 VIN (power), 6 TAB

## LM2585S-5.0
designator U?
SIMPLE SWITCHER® 3-Amp Flyback Regulator, 5-pin TO-263; PartNumber: LM2585S-5.0; Manufacturer: National Semiconductor; PackageTopMarking: NSUZXYTTE#*LM2585S*-5.0 P+; PowerWise: N; High-Reliability: Y; DatasheetVersion: Feb-2010; PackageVersion: revD, Apr-2005; PackageReference: TS5B; PackageDescription: TO-263, Molded, .400 x .390 x .180in, 5 Lead, .067in Pitch, Surface Mount; RoHS: N; PinCount: 5; CompType: Switcher; Code_JEDEC: MO-169-AB; ComponentLink1Description: Manufacturer URL; ComponentLink1URL: http://www.national.com/; ComponentLink2Description: LM2585 Datasheet; ComponentLink2URL: http://www.national.com/ds/LM/LM2585.pdf; ComponentLink3Description: LM2585 Web Page; ComponentLink3URL: http://www.national.com/pf/LM/LM2585.html; ComponentLink4Description: TS5B Package Page; ComponentLink4URL: http://www.national.com/packaging/folders/ts5b.html
footprint TS5B_N (D2-PAK, 6-Leads, Body 8.6x10.2mm, Pitch 1.7mm, Lead Span 14.1mm, IPC Medium Density)
footprint TS5B_L (D2-PAK, 6-Leads, Body 8.6x10.2mm, Pitch 1.7mm, Lead Span 14.1mm, IPC High Density)
footprint TS5B_M (D2-PAK, 6-Leads, Body 8.6x10.2mm, Pitch 1.7mm, Lead Span 14.1mm, IPC Low Density)
pins: 1 COMP, 2 FB (in), 3 GND (power), 4 SW (power), 5 VIN (power), 6 TAB

## LM2585S-5.0/NOPB
designator U?
SIMPLE SWITCHER® 3-Amp Flyback Regulator, 5-pin TO-263, Pb-Free; PartNumber: LM2585S-5.0/NOPB; Manufacturer: National Semiconductor; PackageTopMarking: NSUZXYTTE#*LM2585S*-5.0 P+; PowerWise: N; High-Reliability: Y; DatasheetVersion: Feb-2010; PackageVersion: revD, Apr-2005; PackageReference: TS5B; PackageDescription: TO-263, Molded, .400 x .390 x .180in, 5 Lead, .067in Pitch, Surface Mount; RoHS: Y; PinCount: 5; CompType: Switcher; Code_JEDEC: MO-169-AB; ComponentLink1Description: Manufacturer URL; ComponentLink1URL: http://www.national.com/; ComponentLink2Description: LM2585 Datasheet; ComponentLink2URL: http://www.national.com/ds/LM/LM2585.pdf; ComponentLink3Description: LM2585 Web Page; ComponentLink3URL: http://www.national.com/pf/LM/LM2585.html; ComponentLink4Description: TS5B Package Page; ComponentLink4URL: http://www.national.com/packaging/folders/ts5b.html
footprint TS5B_N (D2-PAK, 6-Leads, Body 8.6x10.2mm, Pitch 1.7mm, Lead Span 14.1mm, IPC Medium Density)
footprint TS5B_L (D2-PAK, 6-Leads, Body 8.6x10.2mm, Pitch 1.7mm, Lead Span 14.1mm, IPC High Density)
footprint TS5B_M (D2-PAK, 6-Leads, Body 8.6x10.2mm, Pitch 1.7mm, Lead Span 14.1mm, IPC Low Density)
pins: 1 COMP, 2 FB (in), 3 GND (power), 4 SW (power), 5 VIN (power), 6 TAB

## LM2585S-12
designator U?
SIMPLE SWITCHER® 3-Amp Flyback Regulator, 5-pin TO-263; PartNumber: LM2585S-12; Manufacturer: National Semiconductor; PackageTopMarking: NSUZXYTTE#*LM2585S*-12 P+; PowerWise: N; High-Reliability: Y; DatasheetVersion: Feb-2010; PackageVersion: revD, Apr-2005; PackageReference: TS5B; PackageDescription: TO-263, Molded, .400 x .390 x .180in, 5 Lead, .067in Pitch, Surface Mount; RoHS: N; PinCount: 5; CompType: Switcher; Code_JEDEC: MO-169-AB; ComponentLink1Description: Manufacturer URL; ComponentLink1URL: http://www.national.com/; ComponentLink2Description: LM2585 Datasheet; ComponentLink2URL: http://www.national.com/ds/LM/LM2585.pdf; ComponentLink3Description: LM2585 Web Page; ComponentLink3URL: http://www.national.com/pf/LM/LM2585.html; ComponentLink4Description: TS5B Package Page; ComponentLink4URL: http://www.national.com/packaging/folders/ts5b.html
footprint TS5B_N (D2-PAK, 6-Leads, Body 8.6x10.2mm, Pitch 1.7mm, Lead Span 14.1mm, IPC Medium Density)
footprint TS5B_L (D2-PAK, 6-Leads, Body 8.6x10.2mm, Pitch 1.7mm, Lead Span 14.1mm, IPC High Density)
footprint TS5B_M (D2-PAK, 6-Leads, Body 8.6x10.2mm, Pitch 1.7mm, Lead Span 14.1mm, IPC Low Density)
pins: 1 COMP, 2 FB (in), 3 GND (power), 4 SW (power), 5 VIN (power), 6 TAB

## LM2585S-12/NOPB
designator U?
SIMPLE SWITCHER® 3-Amp Flyback Regulator, 5-pin TO-263, Pb-Free; PartNumber: LM2585S-12/NOPB; Manufacturer: National Semiconductor; PackageTopMarking: NSUZXYTTE#*LM2585S*-12 P+; PowerWise: N; High-Reliability: Y; DatasheetVersion: Feb-2010; PackageVersion: revD, Apr-2005; PackageReference: TS5B; PackageDescription: TO-263, Molded, .400 x .390 x .180in, 5 Lead, .067in Pitch, Surface Mount; RoHS: Y; PinCount: 5; CompType: Switcher; Code_JEDEC: MO-169-AB; ComponentLink1Description: Manufacturer URL; ComponentLink1URL: http://www.national.com/; ComponentLink2Description: LM2585 Datasheet; ComponentLink2URL: http://www.national.com/ds/LM/LM2585.pdf; ComponentLink3Description: LM2585 Web Page; ComponentLink3URL: http://www.national.com/pf/LM/LM2585.html; ComponentLink4Description: TS5B Package Page; ComponentLink4URL: http://www.national.com/packaging/folders/ts5b.html
footprint TS5B_N (D2-PAK, 6-Leads, Body 8.6x10.2mm, Pitch 1.7mm, Lead Span 14.1mm, IPC Medium Density)
footprint TS5B_L (D2-PAK, 6-Leads, Body 8.6x10.2mm, Pitch 1.7mm, Lead Span 14.1mm, IPC High Density)
footprint TS5B_M (D2-PAK, 6-Leads, Body 8.6x10.2mm, Pitch 1.7mm, Lead Span 14.1mm, IPC Low Density)
pins: 1 COMP, 2 FB (in), 3 GND (power), 4 SW (power), 5 VIN (power), 6 TAB

## LM2585S-ADJ
designator U?
SIMPLE SWITCHER® 3-Amp Flyback Regulator, 5-pin TO-263; PartNumber: LM2585S-ADJ; Manufacturer: National Semiconductor; PackageTopMarking: NSUZXYTTE#*LM2585S*-ADJ P+; PowerWise: N; High-Reliability: Y; DatasheetVersion: Feb-2010; PackageVersion: revD, Apr-2005; PackageReference: TS5B; PackageDescription: TO-263, Molded, .400 x .390 x .180in, 5 Lead, .067in Pitch, Surface Mount; RoHS: N; PinCount: 5; CompType: Switcher; Code_JEDEC: MO-169-AB; ComponentLink1Description: Manufacturer URL; ComponentLink1URL: http://www.national.com/; ComponentLink2Description: LM2585 Datasheet; ComponentLink2URL: http://www.national.com/ds/LM/LM2585.pdf; ComponentLink3Description: LM2585 Web Page; ComponentLink3URL: http://www.national.com/pf/LM/LM2585.html; ComponentLink4Description: TS5B Package Page; ComponentLink4URL: http://www.national.com/packaging/folders/ts5b.html
footprint TS5B_N (D2-PAK, 6-Leads, Body 8.6x10.2mm, Pitch 1.7mm, Lead Span 14.1mm, IPC Medium Density)
footprint TS5B_L (D2-PAK, 6-Leads, Body 8.6x10.2mm, Pitch 1.7mm, Lead Span 14.1mm, IPC High Density)
footprint TS5B_M (D2-PAK, 6-Leads, Body 8.6x10.2mm, Pitch 1.7mm, Lead Span 14.1mm, IPC Low Density)
pins: 1 COMP, 2 FB (in), 3 GND (power), 4 SW (power), 5 VIN (power), 6 TAB

## LM2585S-ADJ/NOPB
designator U?
SIMPLE SWITCHER® 3-Amp Flyback Regulator, 5-pin TO-263, Pb-Free; PartNumber: LM2585S-ADJ/NOPB; Manufacturer: National Semiconductor; PackageTopMarking: NSUZXYTTE#*LM2585S*-ADJ P+; PowerWise: N; High-Reliability: Y; DatasheetVersion: Feb-2010; PackageVersion: revD, Apr-2005; PackageReference: TS5B; PackageDescription: TO-263, Molded, .400 x .390 x .180in, 5 Lead, .067in Pitch, Surface Mount; RoHS: Y; PinCount: 5; CompType: Switcher; Code_JEDEC: MO-169-AB; ComponentLink1Description: Manufacturer URL; ComponentLink1URL: http://www.national.com/; ComponentLink2Description: LM2585 Datasheet; ComponentLink2URL: http://www.national.com/ds/LM/LM2585.pdf; ComponentLink3Description: LM2585 Web Page; ComponentLink3URL: http://www.national.com/pf/LM/LM2585.html; ComponentLink4Description: TS5B Package Page; ComponentLink4URL: http://www.national.com/packaging/folders/ts5b.html
footprint TS5B_N (D2-PAK, 6-Leads, Body 8.6x10.2mm, Pitch 1.7mm, Lead Span 14.1mm, IPC Medium Density)
footprint TS5B_L (D2-PAK, 6-Leads, Body 8.6x10.2mm, Pitch 1.7mm, Lead Span 14.1mm, IPC High Density)
footprint TS5B_M (D2-PAK, 6-Leads, Body 8.6x10.2mm, Pitch 1.7mm, Lead Span 14.1mm, IPC Low Density)
pins: 1 COMP, 2 FB (in), 3 GND (power), 4 SW (power), 5 VIN (power), 6 TAB

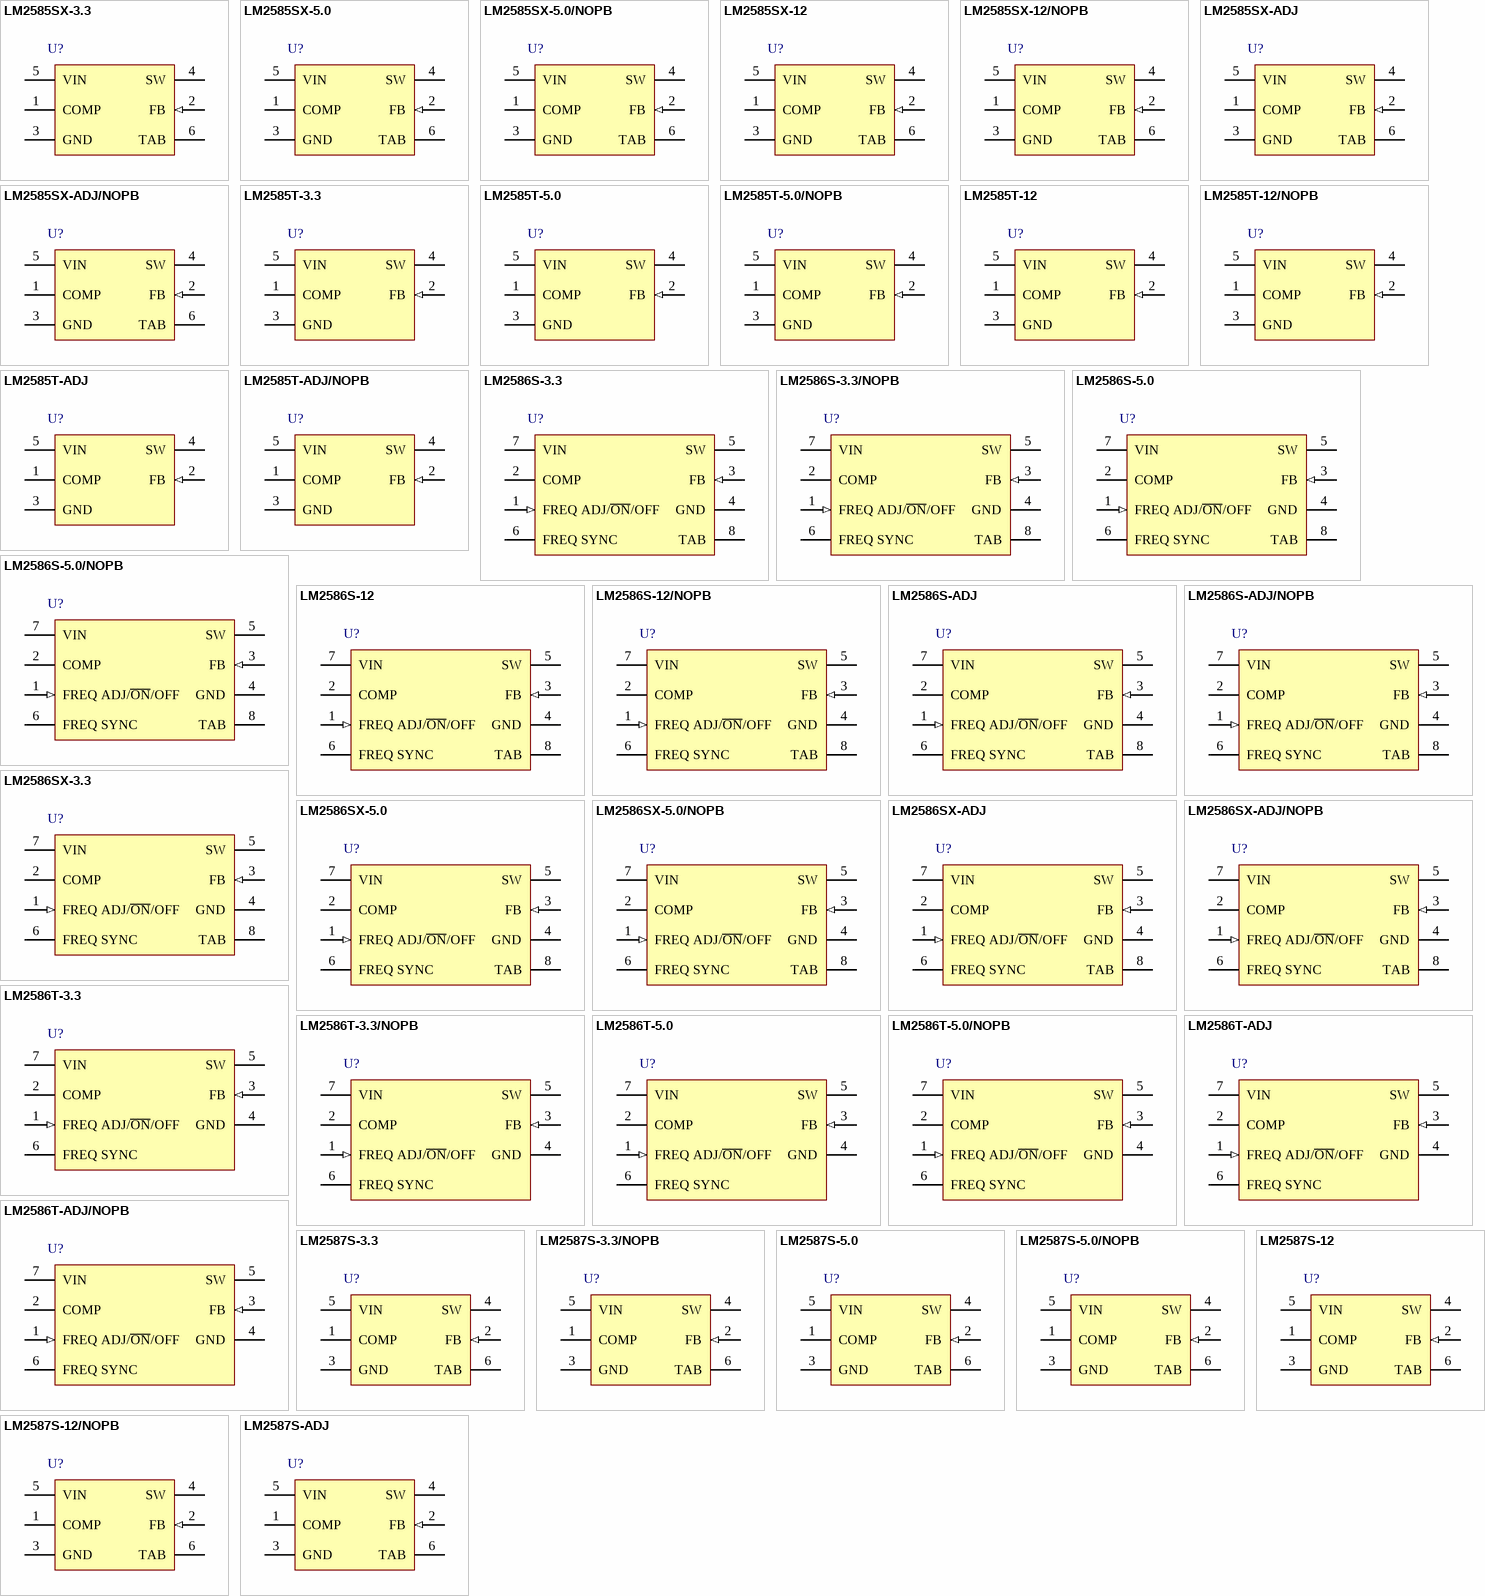
[diagram p6: symbols LM2585SX-3.3 to LM2587S-ADJ]

## LM2585SX-3.3
designator U?
SIMPLE SWITCHER® 3-Amp Flyback Regulator, 5-pin TO-263; PartNumber: LM2585SX-3.3; Manufacturer: National Semiconductor; PackageTopMarking: NSUZXYTTE#*LM2585S*-3.3 P+; PowerWise: N; High-Reliability: Y; DatasheetVersion: Feb-2010; PackageVersion: revD, Apr-2005; PackageReference: TS5B; PackageDescription: TO-263, Molded, .400 x .390 x .180in, 5 Lead, .067in Pitch, Surface Mount; RoHS: N; PinCount: 5; CompType: Switcher; Code_JEDEC: MO-169-AB; ComponentLink1Description: Manufacturer URL; ComponentLink1URL: http://www.national.com/; ComponentLink2Description: LM2585 Datasheet; ComponentLink2URL: http://www.national.com/ds/LM/LM2585.pdf; ComponentLink3Description: LM2585 Web Page; ComponentLink3URL: http://www.national.com/pf/LM/LM2585.html; ComponentLink4Description: TS5B Package Page; ComponentLink4URL: http://www.national.com/packaging/folders/ts5b.html
footprint TS5B_N (D2-PAK, 6-Leads, Body 8.6x10.2mm, Pitch 1.7mm, Lead Span 14.1mm, IPC Medium Density)
footprint TS5B_L (D2-PAK, 6-Leads, Body 8.6x10.2mm, Pitch 1.7mm, Lead Span 14.1mm, IPC High Density)
footprint TS5B_M (D2-PAK, 6-Leads, Body 8.6x10.2mm, Pitch 1.7mm, Lead Span 14.1mm, IPC Low Density)
pins: 1 COMP, 2 FB (in), 3 GND (power), 4 SW (power), 5 VIN (power), 6 TAB

## LM2585SX-5.0
designator U?
SIMPLE SWITCHER® 3-Amp Flyback Regulator, 5-pin TO-263; PartNumber: LM2585SX-5.0; Manufacturer: National Semiconductor; PackageTopMarking: NSUZXYTTE#*LM2585S*-5.0 P+; PowerWise: N; High-Reliability: Y; DatasheetVersion: Feb-2010; PackageVersion: revD, Apr-2005; PackageReference: TS5B; PackageDescription: TO-263, Molded, .400 x .390 x .180in, 5 Lead, .067in Pitch, Surface Mount; RoHS: N; PinCount: 5; CompType: Switcher; Code_JEDEC: MO-169-AB; ComponentLink1Description: Manufacturer URL; ComponentLink1URL: http://www.national.com/; ComponentLink2Description: LM2585 Datasheet; ComponentLink2URL: http://www.national.com/ds/LM/LM2585.pdf; ComponentLink3Description: LM2585 Web Page; ComponentLink3URL: http://www.national.com/pf/LM/LM2585.html; ComponentLink4Description: TS5B Package Page; ComponentLink4URL: http://www.national.com/packaging/folders/ts5b.html
footprint TS5B_N (D2-PAK, 6-Leads, Body 8.6x10.2mm, Pitch 1.7mm, Lead Span 14.1mm, IPC Medium Density)
footprint TS5B_L (D2-PAK, 6-Leads, Body 8.6x10.2mm, Pitch 1.7mm, Lead Span 14.1mm, IPC High Density)
footprint TS5B_M (D2-PAK, 6-Leads, Body 8.6x10.2mm, Pitch 1.7mm, Lead Span 14.1mm, IPC Low Density)
pins: 1 COMP, 2 FB (in), 3 GND (power), 4 SW (power), 5 VIN (power), 6 TAB

## LM2585SX-5.0/NOPB
designator U?
SIMPLE SWITCHER® 3-Amp Flyback Regulator, 5-pin TO-263, Pb-Free; PartNumber: LM2585SX-5.0/NOPB; Manufacturer: National Semiconductor; PackageTopMarking: NSUZXYTTE#*LM2585S*-5.0 P+; PowerWise: N; High-Reliability: Y; DatasheetVersion: Feb-2010; PackageVersion: revD, Apr-2005; PackageReference: TS5B; PackageDescription: TO-263, Molded, .400 x .390 x .180in, 5 Lead, .067in Pitch, Surface Mount; RoHS: Y; PinCount: 5; CompType: Switcher; Code_JEDEC: MO-169-AB; ComponentLink1Description: Manufacturer URL; ComponentLink1URL: http://www.national.com/; ComponentLink2Description: LM2585 Datasheet; ComponentLink2URL: http://www.national.com/ds/LM/LM2585.pdf; ComponentLink3Description: LM2585 Web Page; ComponentLink3URL: http://www.national.com/pf/LM/LM2585.html; ComponentLink4Description: TS5B Package Page; ComponentLink4URL: http://www.national.com/packaging/folders/ts5b.html
footprint TS5B_N (D2-PAK, 6-Leads, Body 8.6x10.2mm, Pitch 1.7mm, Lead Span 14.1mm, IPC Medium Density)
footprint TS5B_L (D2-PAK, 6-Leads, Body 8.6x10.2mm, Pitch 1.7mm, Lead Span 14.1mm, IPC High Density)
footprint TS5B_M (D2-PAK, 6-Leads, Body 8.6x10.2mm, Pitch 1.7mm, Lead Span 14.1mm, IPC Low Density)
pins: 1 COMP, 2 FB (in), 3 GND (power), 4 SW (power), 5 VIN (power), 6 TAB

## LM2585SX-12
designator U?
SIMPLE SWITCHER® 3-Amp Flyback Regulator, 5-pin TO-263; PartNumber: LM2585SX-12; Manufacturer: National Semiconductor; PackageTopMarking: NSUZXYTTE#*LM2585S*-12 P+; PowerWise: N; High-Reliability: Y; DatasheetVersion: Feb-2010; PackageVersion: revD, Apr-2005; PackageReference: TS5B; PackageDescription: TO-263, Molded, .400 x .390 x .180in, 5 Lead, .067in Pitch, Surface Mount; RoHS: N; PinCount: 5; CompType: Switcher; Code_JEDEC: MO-169-AB; ComponentLink1Description: Manufacturer URL; ComponentLink1URL: http://www.national.com/; ComponentLink2Description: LM2585 Datasheet; ComponentLink2URL: http://www.national.com/ds/LM/LM2585.pdf; ComponentLink3Description: LM2585 Web Page; ComponentLink3URL: http://www.national.com/pf/LM/LM2585.html; ComponentLink4Description: TS5B Package Page; ComponentLink4URL: http://www.national.com/packaging/folders/ts5b.html
footprint TS5B_N (D2-PAK, 6-Leads, Body 8.6x10.2mm, Pitch 1.7mm, Lead Span 14.1mm, IPC Medium Density)
footprint TS5B_L (D2-PAK, 6-Leads, Body 8.6x10.2mm, Pitch 1.7mm, Lead Span 14.1mm, IPC High Density)
footprint TS5B_M (D2-PAK, 6-Leads, Body 8.6x10.2mm, Pitch 1.7mm, Lead Span 14.1mm, IPC Low Density)
pins: 1 COMP, 2 FB (in), 3 GND (power), 4 SW (power), 5 VIN (power), 6 TAB